# EAGLE library part MICROSD_CON (library xess)
MicroSD Card Connector
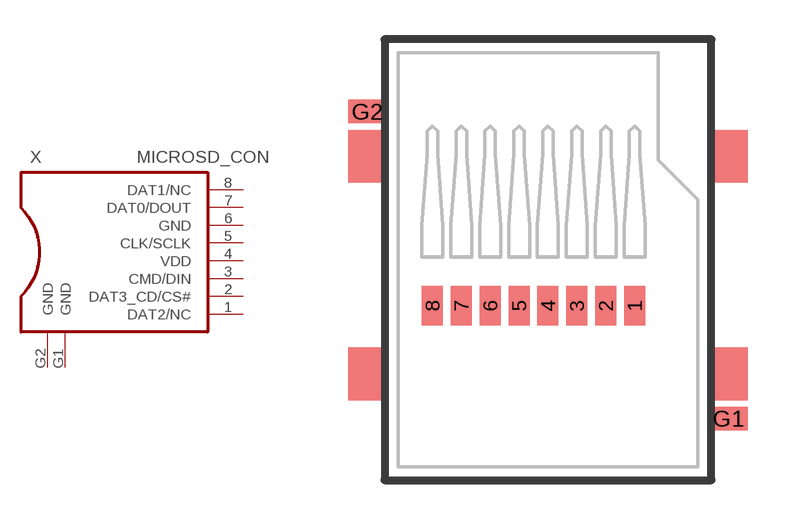
[diagram p135: symbol with the pads of SCHD3A0100; footprint SCHD3A0100]

Designator prefix X

## MICROSD_CON  [SCHD3A0100]
1  DAT2/NC
2  DAT3_CD/CS#
3  CMD/DIN  in
4  VDD  pas
5  CLK/SCLK  in
6  GND  pas
7  DAT0/DOUT
8  DAT1/NC
G1  GND  pas
G2  GND  pas

## Footprint SCHD3A0100 (pad centres in mm)
smd 0.8 x 1.5: 1 3.3,-10.15; 2 2.2,-10.15; 3 1.1,-10.15; 4 0,-10.15; 5 -1.1,-10.15; 6 -2.2,-10.15; 7 -3.3,-10.15; 8 -4.4,-10.15
smd 1.45 x 0.9: G1 6.875,-14.45; G2 -6.875,-2.75